# EAGLE library part MAX712 (library ads4)
NiMH/NiCd Charge Controller
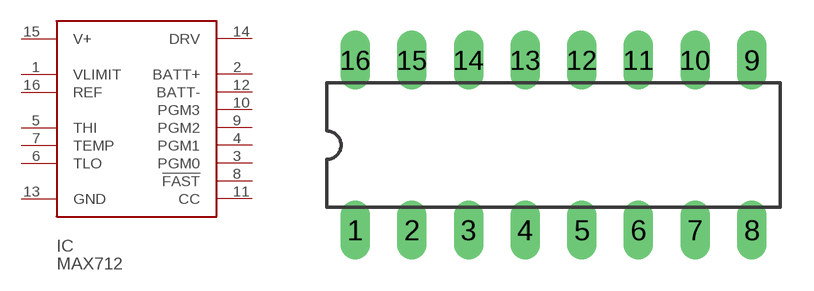
[diagram p13: symbol with the pads of DIL16; footprint DIL16]

Designator prefix IC

## MAX712P  [DIL16]
1  VLIMIT  pas
2  BATT+  pas
3  PGM0  pas
4  PGM1  pas
5  THI  pas
6  TLO  pas
7  TEMP  pas
8  !FAST  pas
9  PGM2  pas
10  PGM3  pas
11  CC  pas
12  BATT-  pas
13  GND  pas
14  DRV  pas
15  V+  pas
16  REF  pas

## Footprint DIL16 (pad centres in mm)
DIL16 package from 74XXX-US.LBR
drill 0.813 long: 1 -7.62,-3.81; 2 -5.08,-3.81; 3 -2.54,-3.81; 4 0,-3.81; 5 2.54,-3.81; 6 5.08,-3.81; 7 7.62,-3.81; 8 10.16,-3.81; 9 10.16,3.81; 10 7.62,3.81; 11 5.08,3.81; 12 2.54,3.81; 13 0,3.81; 14 -2.54,3.81; 15 -5.08,3.81; 16 -7.62,3.81